# EAGLE library part AP1509_SW_REG (library jasons_stuff)
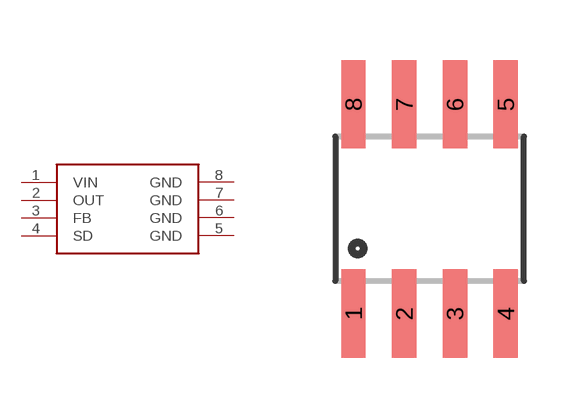
[diagram p43: symbol with the pads of SO08; footprint SO08]

Designator prefix -

## AP1509_SW_REG  [SO08]
1  VIN
2  OUT
3  FB
4  SD
5  GND  pwr
6  GND  pwr
7  GND  pwr
8  GND  pwr

## Footprint SO08 (pad centres in mm)
Small Outline Package Fits JEDEC packages (narrow SOIC-8)
smd 0.61 x 2.21: 1 -1.905,-2.616; 2 -0.635,-2.616; 3 0.635,-2.616; 4 1.905,-2.616; 5 1.905,2.616; 6 0.635,2.616; 7 -0.635,2.616; 8 -1.905,2.616